# Altium footprint library 78XX.PcbLib: 2 footprints
Each footprint in its own frame and in the unit in brackets; x right, y up, seen from the top. Pads: shape width x height; smd on the part's side, far side on the other; paste and mask are expansions set on the pad; w line width, h text height; cw(c..) or ccw(c..) is an arc to the next point about the centre after c.
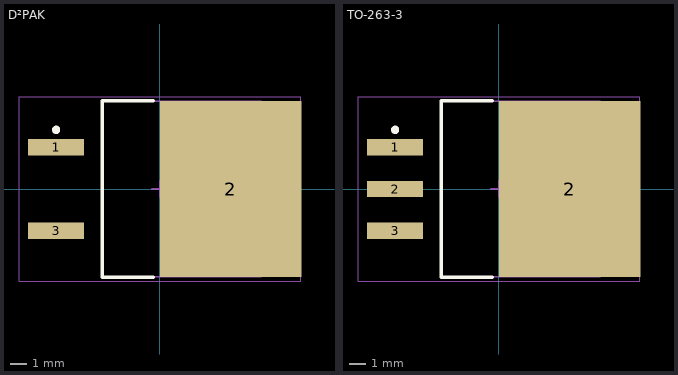
[diagram p0: the footprints below, top view; thin cyan lines are the x and y axes]

## D²PAK [mm] "D2-PAK, 4-Pads, Body 7,93x8,69mm (max), IPC Medium Density"
height 4.83
pads (3):
  rect 3.4x1 smd: 1(-6.3,2.54) 3(-6.3,-2.54)
  rect 8.6x10.7 smd: 2(4.3,0)
Top Overlay:
  circle w0.25: c-6.3,3.59 r0.125
  lines w0.2: -0.4,-5.35 -3.5,-5.35 -3.5,5.35 -0.4,5.35
Mechanical 13:
  lines w0.1: -3.5,-5.325 -3.5,5.325 6.15,5.325 6.15,-5.325 -3.5,-5.325
Mechanical 15:
  lines w0.05: -8.55,-5.6 -8.55,5.6 8.55,5.6 8.55,-5.6 -8.55,-5.6
  lines w0.1: -0.5,0 0.5,0 ; 0,-0.5 0,0.5
3D body: height 4.83, standoff 0, extent -3.5,-5.325 6.15,5.325

## TO-263-3 [mm] "D2-PAK, 4-Pads, Body 7,93x8,69mm (max), IPC Medium Density"
height 4.83
pads (4):
  rect 3.4x1 smd: 1(-6.3,2.54) 2(-6.3,0) 3(-6.3,-2.54)
  rect 8.6x10.7 smd: 2(4.3,0)
Top Overlay:
  circle w0.25: c-6.3,3.59 r0.125
  lines w0.2: -0.4,-5.35 -3.5,-5.35 -3.5,5.35 -0.4,5.35
Mechanical 13:
  lines w0.1: -3.5,-5.325 -3.5,5.325 6.15,5.325 6.15,-5.325 -3.5,-5.325
Mechanical 15:
  lines w0.05: -8.55,-5.6 -8.55,5.6 8.55,5.6 8.55,-5.6 -8.55,-5.6
  lines w0.1: -0.5,0 0.5,0 ; 0,-0.5 0,0.5
3D body: height 4.83, standoff 0, extent -3.5,-5.325 6.15,5.325